# EAGLE library part LM386 (library sdf20)
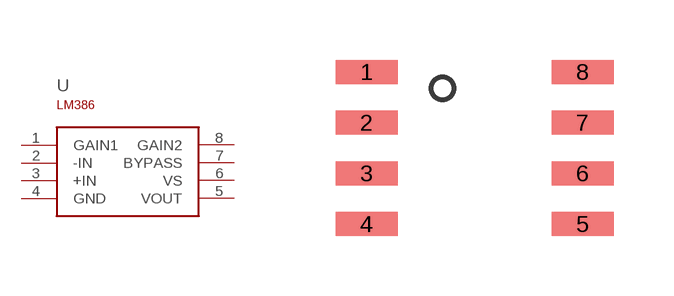
[diagram p1: symbol with the pads of 8-SOIC; footprint 8-SOIC]

Designator prefix -

## LM386  [8-SOIC]
1  GAIN1
2  -IN
3  +IN
4  GND
5  VOUT
6  VS
7  BYPASS
8  GAIN2

## Footprint 8-SOIC (pad centres in mm)
smd 1.55 x 0.6: 1 0,3.81; 2 0,2.54; 3 0,1.27; 4 0,0; 5 5.4,0; 6 5.4,1.27; 7 5.4,2.54; 8 5.4,3.81